# Altium footprint library LPEDT_Parts.PcbLib: 31 footprints (part 1 of 2)
Each footprint in its own frame and in the unit in brackets; x right, y up, seen from the top. Pads: shape width x height; smd on the part's side, far side on the other; paste and mask are expansions set on the pad; w line width, h text height; cw(c..) or ccw(c..) is an arc to the next point about the centre after c.
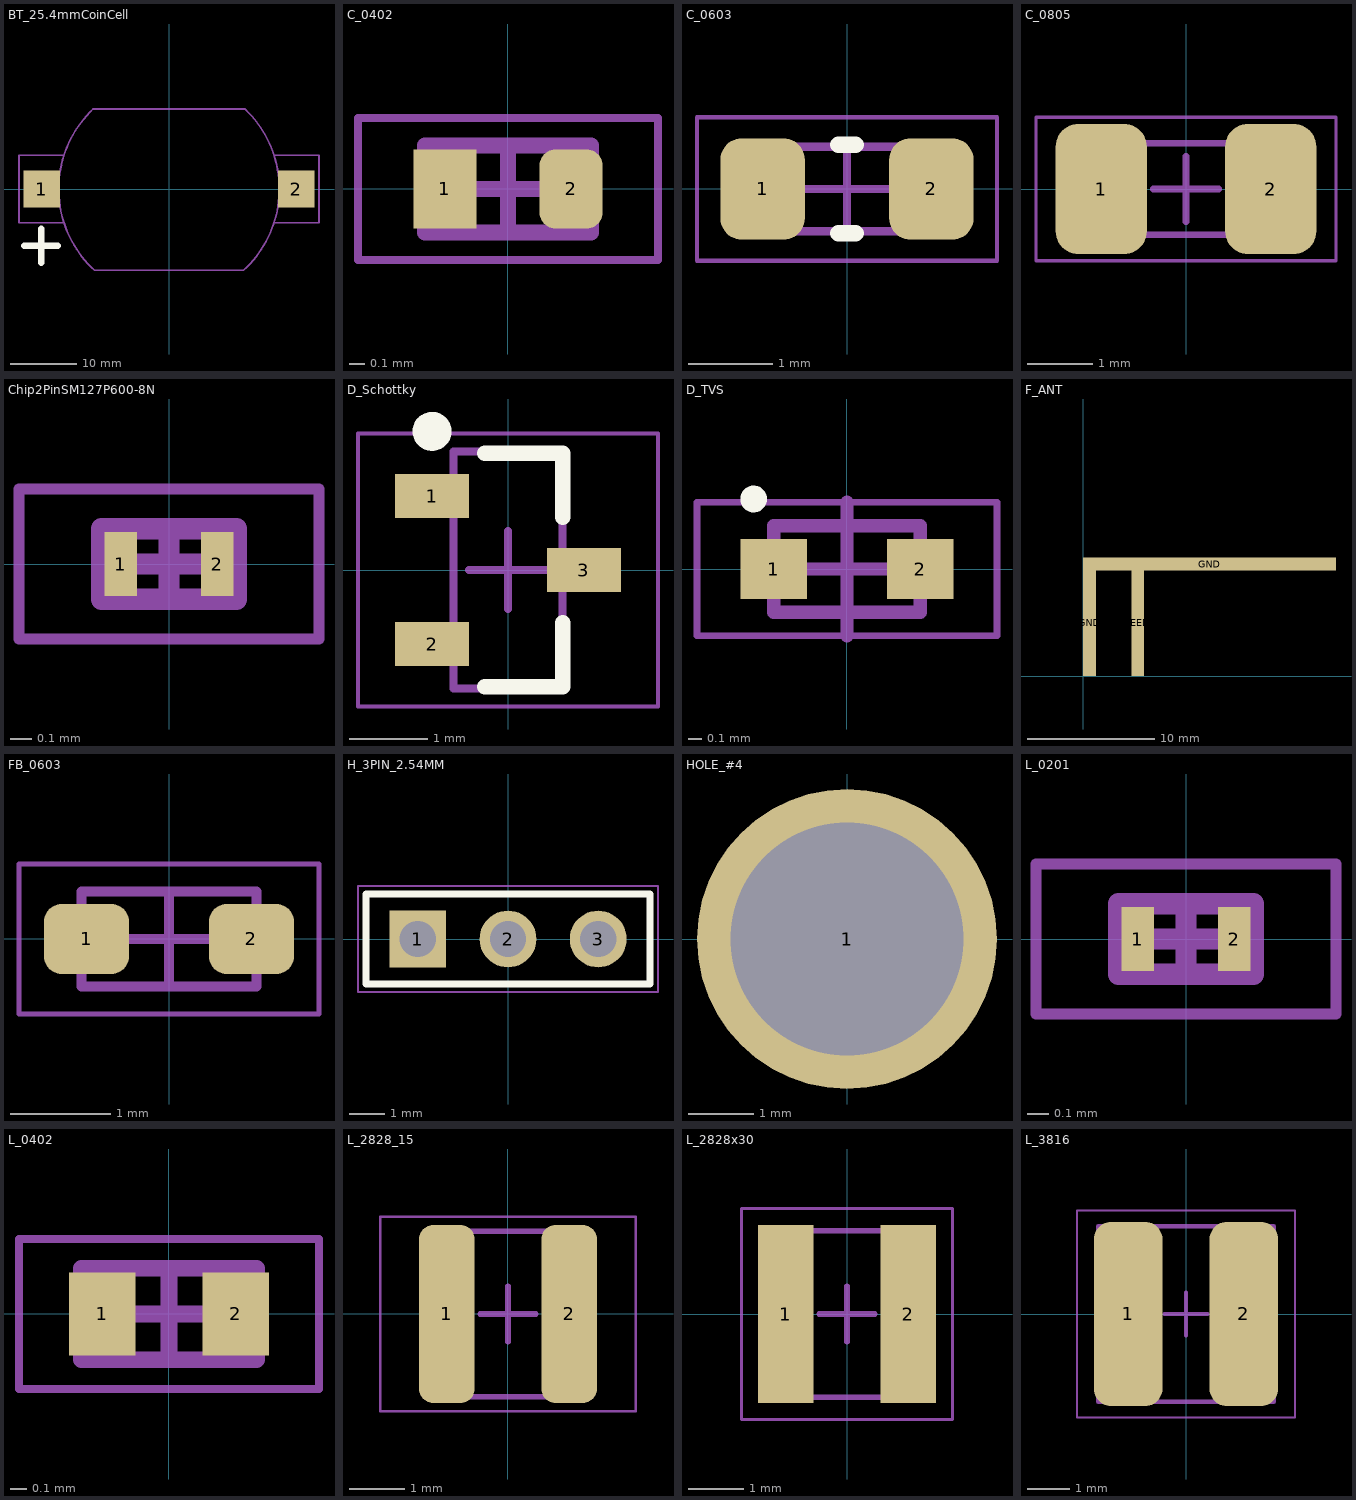
[diagram p0: the footprints below, top view; thin cyan lines are the x and y axes]

## BT_25.4mmCoinCell [mm]
height 1
pads (2):
  rect 5.5x5.5 smd: 1(-19.05,0) 2(19.05,0)
Top Overlay:
  lines w1: -21.651,-8.502 -19.151,-8.502 ; -19.151,-11.002 -19.151,-8.502 ; -19.151,-6.002 -19.151,-8.502 ; -16.651,-8.502 -19.151,-8.502
Mechanical 1:
  lines w0.254: -15.748,-5.08 -22.479,-5.08 -22.479,5.08 -15.748,5.08 ; -11.176,-12.192 0,-12.192 11.176,-12.192 ; -11.169,-12.185 cw(c0,0) -11.383,11.985 0,11.985 11.431,11.985 ; 11.169,-12.185 ccw(c0,0) 11.431,11.939 ; 15.748,-5.08 22.479,-5.08 22.479,5.08 15.748,5.08

## C_0402 [mm]
height 0.55
pads (2):
  rect 0.4x0.5 smd mask+0.06: 1(-0.4,0)
  rrect50% 0.4x0.5 smd mask+0.06: 2(0.4,0)
Mechanical 13:
  lines w0.1: -0.525,-0.275 -0.525,0.275 0.525,0.275 0.525,-0.275 -0.525,-0.275
  text ".Designator" at -0.475,-0.125 h0.3
Mechanical 15:
  lines w0.05: -0.95,-0.45 -0.95,0.45 0.95,0.45 0.95,-0.45 -0.95,-0.45
  lines w0.1: -0.275,0 0.275,0 ; 0,-0.275 0,0.275
3D body: height 0.55, standoff 0, extent -0.275,-0.275 0.275,0.275
3D body: height 0.55, standoff 0, extent -0.525,-0.275 -0.275,0.275
3D body: height 0.55, standoff 0, extent 0.275,-0.275 0.525,0.275

## C_0603 [mm] "Chip Capacitor, 2-Leads, Body 1.60x0.80mm, IPC Medium Density"
height 1
pads (2):
  rrect50% 1x1.2 smd: 1(-1,0) 2(1,0)
Top Overlay:
  lines w0.2: -0.1,-0.525 0.1,-0.525 ; -0.1,0.525 0.1,0.525
Mechanical 13:
  lines w0.1: -0.9,-0.5 0.9,-0.5 0.9,0.5 -0.9,0.5 -0.9,-0.5
  text ".Designator" at -0.723,-0.254 h0.5
Mechanical 15:
  lines w0.05: -1.778,-0.85 1.778,-0.85 1.778,0.85 -1.778,0.85 -1.778,-0.85
  lines w0.1: -0.5,0 0.5,0 ; 0,-0.5 0,0.5
3D body "CAP_0603_1608X10.step": height 1, standoff 0, extent -0.9,-0.5 0.9,0.5

## C_0805 [mm] "Chip Capacitor, 2-Leads, Body 2.00x1.25mm, IPC Medium Density"
height 1.4
pads (2):
  rrect50% 1.4x2 smd: 1(-1.3,0) 2(1.3,0)
Mechanical 13:
  lines w0.1: -1.075,-0.7 1.075,-0.7 1.075,0.7 -1.075,0.7 -1.075,-0.7
  text ".Designator" at 0.125,-0.7 h0.52
Mechanical 15:
  lines w0.05: -2.3,-1.1 2.3,-1.1 2.3,1.1 -2.3,1.1 -2.3,-1.1
  lines w0.1: -0.5,0 0.5,0 ; 0,-0.5 0,0.5
3D body "CAP_0805_1.25MM.step": height 1.4, standoff 0, extent -1.075,-0.7 1.075,0.7

## Chip2PinSM127P600-8N [mm]
height 0.33
pads (2):
  rect 0.15x0.3 smd mask+0.06: 1(-0.225,0) 2(0.225,0)
Mechanical 13:
  lines w0.1: -0.315,-0.165 0.315,-0.165 0.315,0.165 -0.315,0.165 -0.315,-0.165
Mechanical 15:
  lines w0.05: -0.7,-0.35 0.7,-0.35 0.7,0.35 -0.7,0.35 -0.7,-0.35
  lines w0.1: -0.165,0 0.165,0 ; 0,-0.165 0,0.165
3D body "Chip2PinSM127P600-8N.step": height 0.33, standoff 0, extent -0.315,-0.165 0.315,0.165

## D_Schottky [mm] "SOT23, 3-Leads, Body 2.92x2.37mm, Pitch 0.95mm, IPC Medium Density"
height 1.11
pads (3):
  rect 0.95x0.56 smd: 1(-0.975,0.95) 2(-0.975,-0.95) 3(0.975,0)
Top Overlay:
  circle w0.25: c-0.975,1.78 r0.125
  lines w0.2: -0.3,-1.5 0.7,-1.5 0.7,-0.68 ; -0.3,1.5 0.7,1.5 0.7,0.68
Mechanical 13:
  lines w0.1: -0.7,-1.52 -0.7,1.52 0.7,1.52 0.7,-1.52 -0.7,-1.52
Mechanical 15:
  lines w0.05: -1.925,-1.75 -1.925,1.75 1.925,1.75 1.925,-1.75 -1.925,-1.75
  lines w0.1: -0.5,0 0.5,0 ; 0,-0.5 0,0.5
3D body "SOT95P237X111-3N.step": height 1.11, standoff 0, extent -1.32,-1.52 1.32,1.52

## D_TVS [mm] "SODFL, 2-Leads, Body 0.60x1.40mm, IPC Medium Density"
height 0.65
pads (2):
  rect 0.5x0.45 smd: 1(-0.55,0) 2(0.55,0)
Top Overlay:
  circle w0.1: c-0.7,0.525 r0.05
Mechanical 13:
  lines w0.1: -0.55,-0.325 0.55,-0.325 0.55,0.325 -0.55,0.325 -0.55,-0.325
  text ".Designator" at -0.179,-0.064 h0.5
Mechanical 15:
  lines w0.05: -1.125,-0.5 1.125,-0.5 1.125,0.5 -1.125,0.5 -1.125,-0.5
  lines w0.1: -0.5,0 0.5,0 ; 0,-0.5 0,0.5
3D body "D_TVS.step": height 0.65, standoff 0, extent -0.7,-0.325 0.7,0.325

## F_ANT [mil]
pads (3):
  rect 40x331 smd: FEED(169,165.5) GND(20,165.5)
  rect 782x39 smd: GND(391,346.5)

## FB_0603 [mm]
height 0.65
pads (2):
  rrect50% 0.85x0.7 smd mask+0.06: 1(-0.825,0) 2(0.825,0)
Mechanical 13:
  lines w0.1: -0.875,-0.475 -0.875,0.475 0.875,0.475 0.875,-0.475 -0.875,-0.475
  text ".Designator" at -0.635,-0.279 h0.6
Mechanical 15:
  lines w0.05: -1.5,-0.75 -1.5,0.75 1.5,0.75 1.5,-0.75 -1.5,-0.75
  lines w0.1: -0.475,0 0.475,0 ; 0,-0.475 0,0.475
3D body: height 0.65, standoff 0, extent -0.475,-0.475 0.475,0.475
3D body: height 0.65, standoff 0, extent -0.875,-0.475 -0.475,0.475
3D body: height 0.65, standoff 0, extent 0.475,-0.475 0.875,0.475

## H_3PIN_2.54MM [mm] ".025 SQ Post Terminal Strip Assembly, 1x3 Pins, Vertical, 2.54mm Pitch, Male"
height 8.58
pads (3):
  rect 1.6x1.6 hole 1.02: 1(-2.54,0)
  round 1.6 hole 1.02: 2(0,0) 3(2.54,0)
Top Overlay:
  lines w0.2: -4,-1.27 -4,1.27 4,1.27 4,-1.27 -4,-1.27
Mechanical 13:
  lines w0.1: -4,-1.27 -4,1.27 4,1.27 4,-1.27 -4,-1.27
  text ".Designator" at -1.524,-0.635 h1.3
Mechanical 15:
  lines w0.05: -4.225,-1.495 -4.225,1.495 4.225,1.495 4.225,-1.495 -4.225,-1.495
  lines w0.1: -0.5,0 0.5,0 ; 0,-0.5 0,0.5
3D body "User Library-Header_Male_3Pin.STEP": height 8.54, standoff -3, extent -3.81,-1.27 3.81,1.22

## HOLE_#4 [mil]
pads (1):
  round 180 hole 140: 1(0,0)

## L_0201 [mm]
height 0.33
pads (2):
  rect 0.15x0.3 smd mask+0.06: 1(-0.225,0) 2(0.225,0)
Mechanical 13:
  lines w0.1: -0.315,-0.165 -0.315,0.165 0.315,0.165 0.315,-0.165 -0.315,-0.165
  text ".Designator" at 0.054,0.064 h0.52
Mechanical 15:
  lines w0.05: -0.7,-0.35 -0.7,0.35 0.7,0.35 0.7,-0.35 -0.7,-0.35
  lines w0.1: -0.165,0 0.165,0 ; 0,-0.165 0,0.165
3D body: height 0.33, standoff 0, extent -0.315,-0.165 -0.165,0.165
3D body: height 0.33, standoff 0, extent -0.165,-0.165 0.165,0.165
3D body: height 0.33, standoff 0, extent 0.165,-0.165 0.315,0.165

## L_0402 [mm]
height 0.55
pads (2):
  rect 0.4x0.5 smd mask+0.06: 1(-0.4,0) 2(0.4,0)
Mechanical 13:
  lines w0.1: -0.525,-0.275 -0.525,0.275 0.525,0.275 0.525,-0.275 -0.525,-0.275
  text ".Designator" at -0.475,-0.125 h0.3
Mechanical 15:
  lines w0.05: -0.9,-0.45 -0.9,0.45 0.9,0.45 0.9,-0.45 -0.9,-0.45
  lines w0.1: -0.275,0 0.275,0 ; 0,-0.275 0,0.275
3D body: height 0.55, standoff 0, extent -0.275,-0.275 0.275,0.275
3D body: height 0.55, standoff 0, extent -0.525,-0.275 -0.275,0.275
3D body: height 0.55, standoff 0, extent 0.275,-0.275 0.525,0.275

## L_2828_15 [mm]
pads (2):
  rrect50% 1x3.2 smd: 1(-1.1,0) 2(1.1,0)
Mechanical 13:
  lines w0.1: -1.49,-1.49 1.49,-1.49 1.49,1.49 -1.49,1.49 -1.49,-1.49
Mechanical 15:
  lines w0.05: -2.3,-1.75 2.3,-1.75 2.3,1.75 -2.3,1.75 -2.3,-1.75
  lines w0.1: -0.5,0 0.5,0 ; 0,-0.5 0,0.5
3D body "744029001_Download_STP_WE-TPC-2813_rev1.stp": height 1.2, standoff 0, extent -1.39,-1.39 1.39,1.39

## L_2828x30 [mm]
height 3
pads (2):
  rect 1x3.2 smd: 1(-1.1,0) 2(1.1,0)
Mechanical 13:
  lines w0.1: -1.5,-1.5 1.5,-1.5 1.5,1.5 -1.5,1.5 -1.5,-1.5
  text ".Designator" at -1.25,-0.95 h0.9
Mechanical 15:
  lines w0.05: -1.9,-1.9 1.9,-1.9 1.9,1.9 -1.9,1.9 -1.9,-1.9
  lines w0.1: -0.5,0 0.5,0 ; 0,-0.5 0,0.5
3D body "744025001_Download_STP_WE-TPC-2828_rev1.stp": height 2.8, standoff 0, extent -1.4,-1.4 1.4,1.4

## L_3816 [mm]
pads (2):
  rrect50% 1.6x4.3 smd: 1(-1.35,0) 2(1.35,0)
Mechanical 13:
  lines w0.1: -2.05,-2.05 2.05,-2.05 2.05,2.05 -2.05,2.05 -2.05,-2.05
  text ".Designator" at -1.87,-1.57 h0.9
Mechanical 15:
  lines w0.05: -2.54,-2.413 2.54,-2.413 2.54,2.413 -2.54,2.413 -2.54,-2.413
  lines w0.1: -0.5,0 0.5,0 ; 0,-0.5 0,0.5
3D body "744031001_Download_STP_WE-TPC-3816_rev1.stp": height 1.66, standoff 0.01, extent -1.9,-1.9 1.9,1.9